# EAGLE library part MAX486X (library OverVoltage)
MAX486x Overvoltage Protection Controller
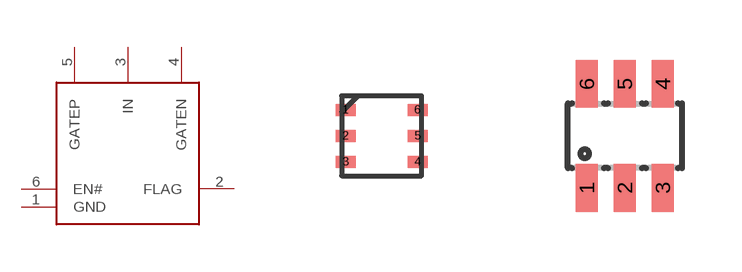
[diagram p0: symbol with the pads of L622; footprints L622, SOT23-6]

Designator prefix IC

## MAX486X  [L622]
1  GND  pwr
2  FLAG  oc
3  IN  in
4  GATEN  out
5  GATEP  out
6  EN#  in

## MAX486XU  [SOT23-6]
1  IN  in
2  GND  pwr
3  FLAG  oc
4  GATEN  out
5  GATEP  out
6  EN#  in

## Footprint L622 (pad centres in mm)
6L uDFN, 2x2x.8mm
smd 0.5 x 0.3: 1 -0.9,0.65; 2 -0.9,0; 3 -0.9,-0.65; 4 0.9,-0.65; 5 0.9,0; 6 0.9,0.65

## Footprint SOT23-6 (pad centres in mm)
smd 0.55 x 1.2: 1 -0.95,-1.3; 2 0,-1.3; 3 0.95,-1.3; 4 0.95,1.3; 5 0,1.3; 6 -0.95,1.3